# Altium schematic symbol library Microcontrollers.SchLib: 6 symbols
Pins are listed as number, name and electrical type; pins without a type are passive.

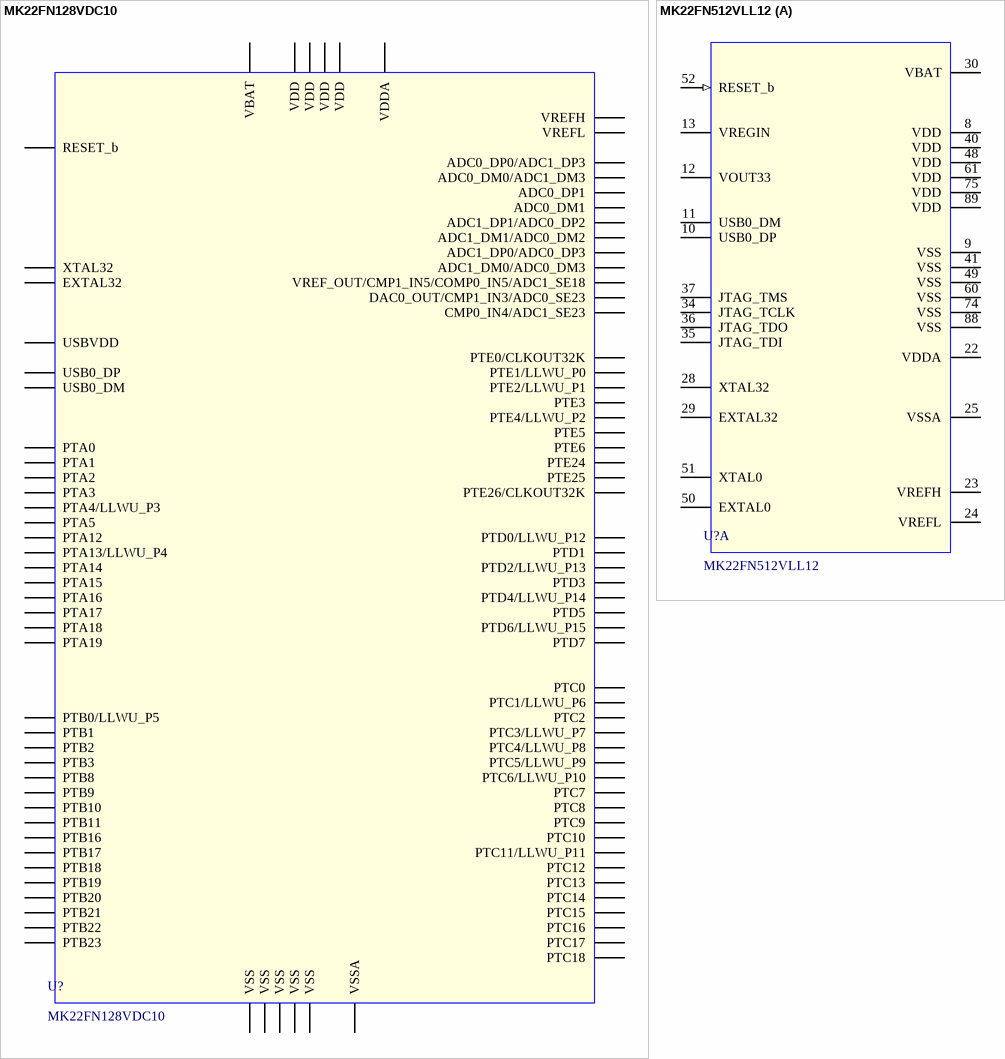
[diagram p0: symbols MK22FN128VDC10 to MK22FN512VLL12]

## MK22FN128VDC10
designator U?
32-bit ARM Cortex-M4 Microcontroller; MFG: FREESCALE; MFG_PN: MK22FN128VDC10
footprint BGA121_0.65mm
pins: A1 PTD7, A2 PTD5, A3 PTD4/LLWU_P14, A4 NC hidden, A5 PTC14, A6 PTC13, A7 PTC8, A8 PTC4/LLWU_P8, A9 NC hidden, A10 NC hidden, A11 NC hidden, B1 NC hidden, B2 PTD6/LLWU_P15, B3 PTD3, B4 PTC18, B5 PTC15, B6 PTC12, B7 PTC7, B8 PTC3/LLWU_P7, B9 PTC0, B10 PTB16, B11 NC hidden, C1 NC hidden, C2 NC hidden, C3 PTD2/LLWU_P13, C4 PTC17, C5 PTC11/LLWU_P11, C6 PTC10, C7 PTC6/LLWU_P10, C8 PTC2, C9 PTB19, C10 PTB11, C11 NC hidden, D1 NC hidden, D2 NC hidden, D3 PTD1, D4 PTD0/LLWU_P12, D5 PTC16, D6 PTC9, D7 PTC5/LLWU_P9, D8 PTC1/LLWU_P6, D9 PTB18, D10 PTB10, D11 PTB8, E1 NC hidden, E2 PTE2/LLWU_P1, E3 PTE1/LLWU_P0, E4 PTE0/CLKOUT32K, E5 VDD, E6 VDD, E7 VDD, E8 PTB23, E9 PTB17, E10 PTB9, E11 NC hidden, F1 USB0_DP, F2 USB0_DM, F3 PTE6, F4 PTE3, F5 VDDA, F6 VSSA, F7 VSS, F8 PTB22, F9 PTB21, F10 PTB20, F11 NC hidden, G1 USBVDD, G2 NC hidden, G3 VSS, G4 PTE5, G5 VREFH, G6 VREFL, G7 VSS, G8 PTB3, G9 PTB2, G10 PTB1, G11 PTB0/LLWU_P5, H1 ADC0_DP1, H2 ADC0_DM1, H3 NC hidden, H4 NC hidden, H5 PTE24, H6 PTE26/CLKOUT32K, H7 PTE4/LLWU_P2, H8 PTA1, H9 PTA3, H10 PTA17, H11 NC hidden, J1 ADC1_DP1/ADC0_DP2, J2 ADC1_DM1/ADC0_DM2, J3 NC hidden, J4 NC hidden, J5 PTE25, J6 PTA0, J7 PTA2, J8 PTA4/LLWU_P3, J9 NC hidden, J10 PTA16, J11 RESET_b, K1 ADC0_DP0/ADC1_DP3, K2 ADC0_DM0/ADC1_DM3, K3 NC hidden, K4 CMP0_IN4/ADC1_SE23, K5 DAC0_OUT/CMP1_IN3/ADC0_SE23, K6 VBAT, K7 PTA5, K8 PTA12, K9 PTA14, K10 VSS, K11 PTA19, L1 ADC1_DP0/ADC0_DP3, L2 ADC1_DM0/ADC0_DM3, L3 VREF_OUT/CMP1_IN5/COMP0_IN5/ADC1_SE18, L4 XTAL32, L5 EXTAL32, L6 VSS, L7 NC hidden, L8 PTA13/LLWU_P4, L9 PTA15, L10 VDD, L11 PTA18

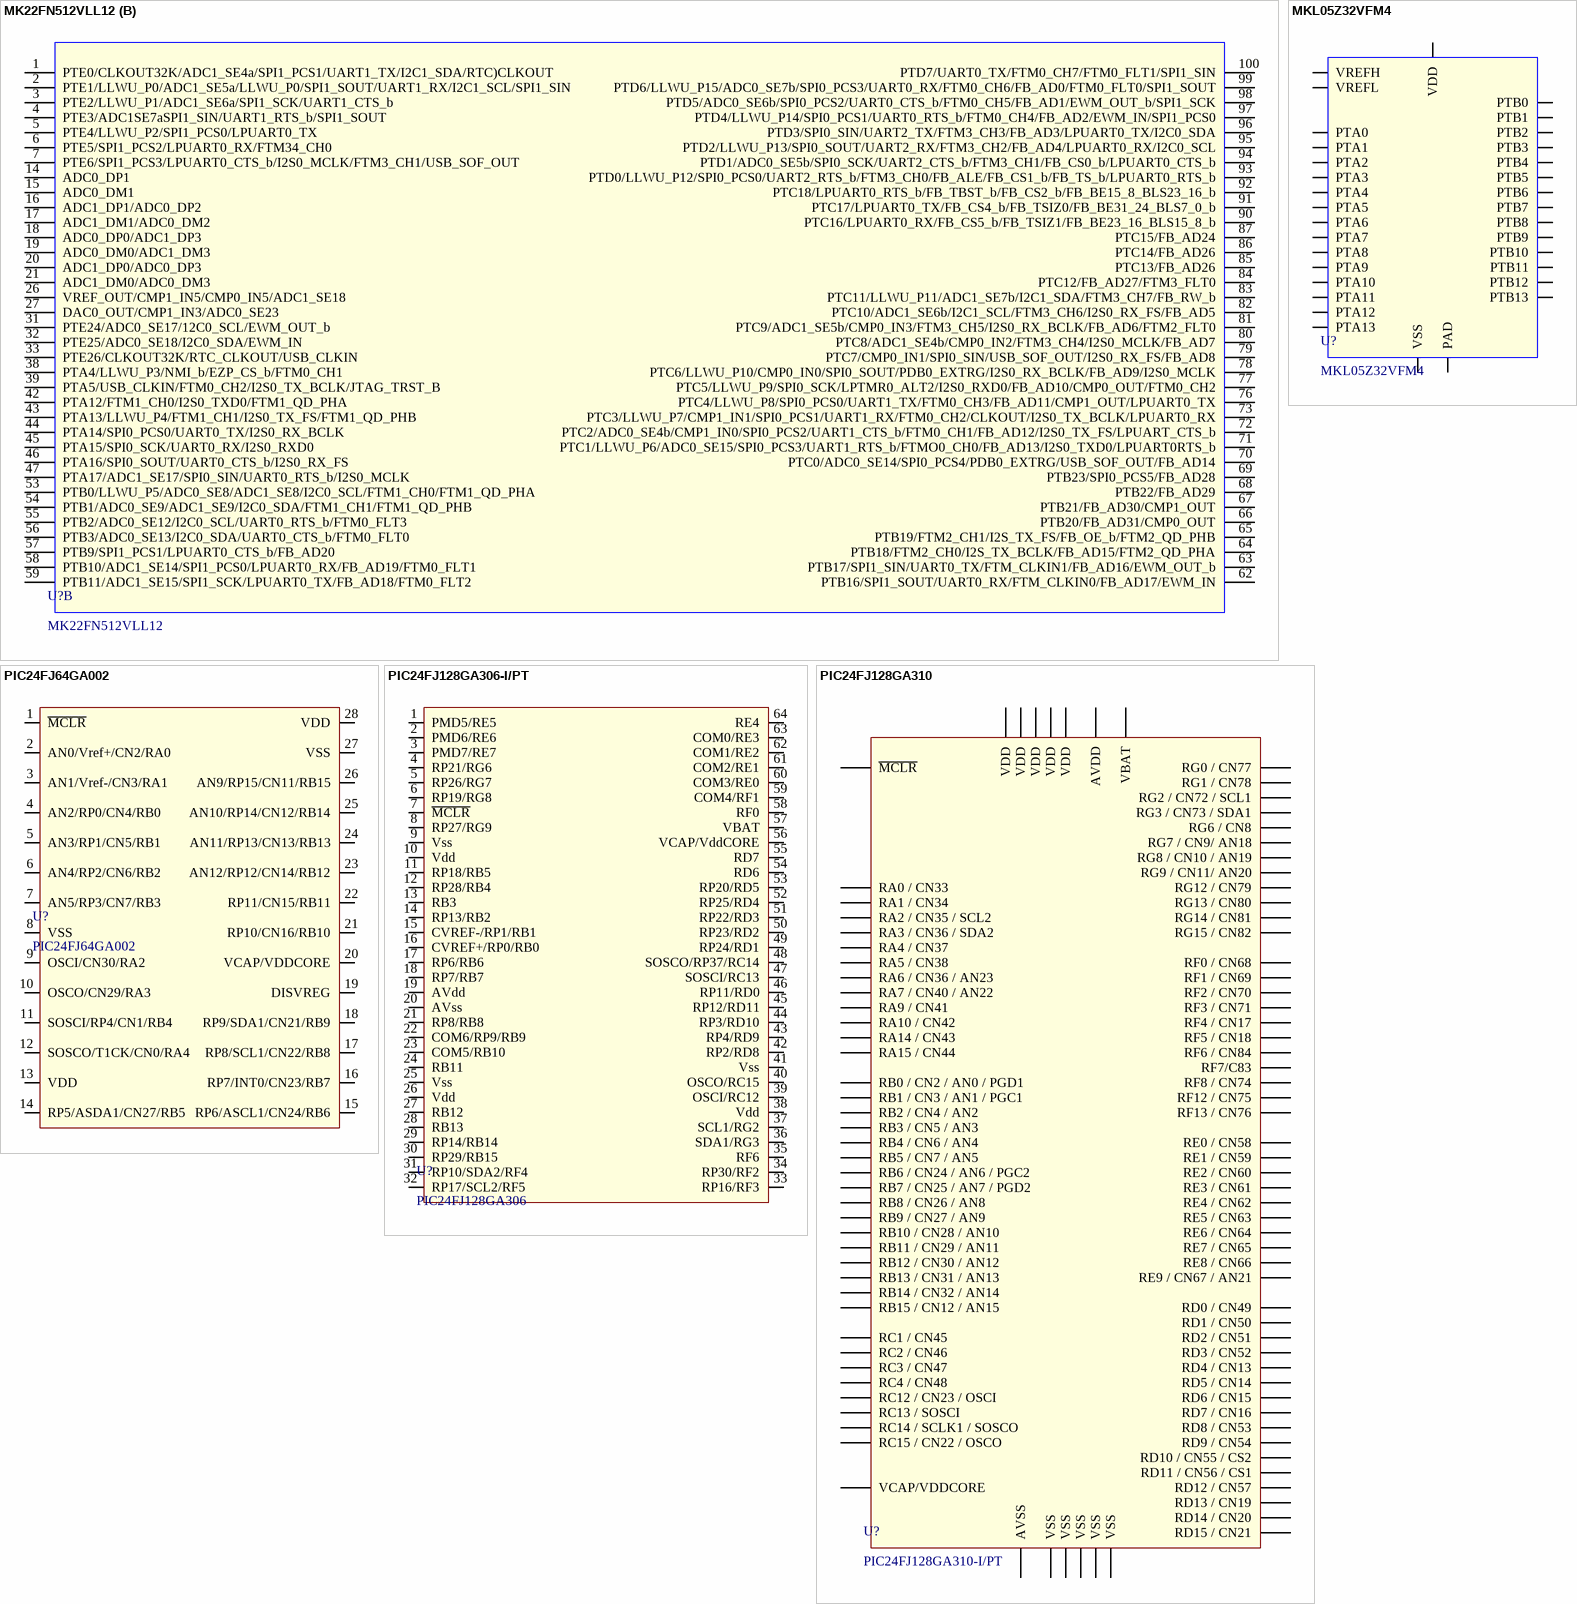
[diagram p1: symbols MK22FN512VLL12 to PIC24FJ128GA310]

## MK22FN512VLL12
designator U?
32-bit ARM Cortex-M4 Microcontroller; MFG: FREESCALE; MFG_PN: MK22FN512VLL12
footprint LQFP100 0.5mm 14mmx14mm
part A pins: 8 VDD (power), 9 VSS (power), 10 USB0_DP, 11 USB0_DM, 12 VOUT33 (power), 13 VREGIN (power), 22 VDDA (power), 23 VREFH (power), 24 VREFL (power), 25 VSSA (power), 28 XTAL32, 29 EXTAL32, 30 VBAT (power), 34 JTAG_TCLK, 35 JTAG_TDI, 36 JTAG_TDO, 37 JTAG_TMS, 40 VDD (power), 41 VSS (power), 48 VDD (power), 49 VSS (power), 50 EXTAL0, 51 XTAL0, 52 RESET_b (in), 60 VSS (power), 61 VDD (power), 74 VSS (power), 75 VDD (power), 88 VSS (power), 89 VDD (power)
part B pins: 1 PTE0/CLKOUT32K/ADC1_SE4a/SPI1_PCS1/UART1_TX/I2C1_SDA/RTC)CLKOUT, 2 PTE1/LLWU_P0/ADC1_SE5a/LLWU_P0/SPI1_SOUT/UART1_RX/I2C1_SCL/SPI1_SIN, 3 PTE2/LLWU_P1/ADC1_SE6a/SPI1_SCK/UART1_CTS_b, 4 PTE3/ADC1SE7aSPI1_SIN/UART1_RTS_b/SPI1_SOUT, 5 PTE4/LLWU_P2/SPI1_PCS0/LPUART0_TX, 6 PTE5/SPI1_PCS2/LPUART0_RX/FTM34_CH0, 7 PTE6/SPI1_PCS3/LPUART0_CTS_b/I2S0_MCLK/FTM3_CH1/USB_SOF_OUT, 14 ADC0_DP1, 15 ADC0_DM1, 16 ADC1_DP1/ADC0_DP2, 17 ADC1_DM1/ADC0_DM2, 18 ADC0_DP0/ADC1_DP3, 19 ADC0_DM0/ADC1_DM3, 20 ADC1_DP0/ADC0_DP3, 21 ADC1_DM0/ADC0_DM3, 26 VREF_OUT/CMP1_IN5/CMP0_IN5/ADC1_SE18, 27 DAC0_OUT/CMP1_IN3/ADC0_SE23, 31 PTE24/ADC0_SE17/12C0_SCL/EWM_OUT_b, 32 PTE25/ADC0_SE18/I2C0_SDA/EWM_IN, 33 PTE26/CLKOUT32K/RTC_CLKOUT/USB_CLKIN, 38 PTA4/LLWU_P3/NMI_b/EZP_CS_b/FTM0_CH1, 39 PTA5/USB_CLKIN/FTM0_CH2/I2S0_TX_BCLK/JTAG_TRST_B, 42 PTA12/FTM1_CH0/I2S0_TXD0/FTM1_QD_PHA, 43 PTA13/LLWU_P4/FTM1_CH1/I2S0_TX_FS/FTM1_QD_PHB, 44 PTA14/SPI0_PCS0/UART0_TX/I2S0_RX_BCLK, 45 PTA15/SPI0_SCK/UART0_RX/I2S0_RXD0, 46 PTA16/SPI0_SOUT/UART0_CTS_b/I2S0_RX_FS, 47 PTA17/ADC1_SE17/SPI0_SIN/UART0_RTS_b/I2S0_MCLK, 53 PTB0/LLWU_P5/ADC0_SE8/ADC1_SE8/I2C0_SCL/FTM1_CH0/FTM1_QD_PHA, 54 PTB1/ADC0_SE9/ADC1_SE9/I2C0_SDA/FTM1_CH1/FTM1_QD_PHB, 55 PTB2/ADC0_SE12/I2C0_SCL/UART0_RTS_b/FTM0_FLT3, 56 PTB3/ADC0_SE13/I2C0_SDA/UART0_CTS_b/FTM0_FLT0, 57 PTB9/SPI1_PCS1/LPUART0_CTS_b/FB_AD20, 58 PTB10/ADC1_SE14/SPI1_PCS0/LPUART0_RX/FB_AD19/FTM0_FLT1, 59 PTB11/ADC1_SE15/SPI1_SCK/LPUART0_TX/FB_AD18/FTM0_FLT2, 62 PTB16/SPI1_SOUT/UART0_RX/FTM_CLKIN0/FB_AD17/EWM_IN, 63 PTB17/SPI1_SIN/UART0_TX/FTM_CLKIN1/FB_AD16/EWM_OUT_b, 64 PTB18/FTM2_CH0/I2S_TX_BCLK/FB_AD15/FTM2_QD_PHA, 65 PTB19/FTM2_CH1/I2S_TX_FS/FB_OE_b/FTM2_QD_PHB, 66 PTB20/FB_AD31/CMP0_OUT, 67 PTB21/FB_AD30/CMP1_OUT, 68 PTB22/FB_AD29, 69 PTB23/SPI0_PCS5/FB_AD28, 70 PTC0/ADC0_SE14/SPI0_PCS4/PDB0_EXTRG/USB_SOF_OUT/FB_AD14, 71 PTC1/LLWU_P6/ADC0_SE15/SPI0_PCS3/UART1_RTS_b/FTMO0_CH0/FB_AD13/I2S0_TXD0/LPUART0RTS_b, 72 PTC2/ADC0_SE4b/CMP1_IN0/SPI0_PCS2/UART1_CTS_b/FTM0_CH1/FB_AD12/I2S0_TX_FS/LPUART_CTS_b, 73 PTC3/LLWU_P7/CMP1_IN1/SPI0_PCS1/UART1_RX/FTM0_CH2/CLKOUT/I2S0_TX_BCLK/LPUART0_RX, 76 PTC4/LLWU_P8/SPI0_PCS0/UART1_TX/FTM0_CH3/FB_AD11/CMP1_OUT/LPUART0_TX, 77 PTC5/LLWU_P9/SPI0_SCK/LPTMR0_ALT2/I2S0_RXD0/FB_AD10/CMP0_OUT/FTM0_CH2, 78 PTC6/LLWU_P10/CMP0_IN0/SPI0_SOUT/PDB0_EXTRG/I2S0_RX_BCLK/FB_AD9/I2S0_MCLK, 79 PTC7/CMP0_IN1/SPI0_SIN/USB_SOF_OUT/I2S0_RX_FS/FB_AD8, 80 PTC8/ADC1_SE4b/CMP0_IN2/FTM3_CH4/I2S0_MCLK/FB_AD7, 81 PTC9/ADC1_SE5b/CMP0_IN3/FTM3_CH5/I2S0_RX_BCLK/FB_AD6/FTM2_FLT0, 82 PTC10/ADC1_SE6b/I2C1_SCL/FTM3_CH6/I2S0_RX_FS/FB_AD5, 83 PTC11/LLWU_P11/ADC1_SE7b/I2C1_SDA/FTM3_CH7/FB_RW_b, 84 PTC12/FB_AD27/FTM3_FLT0, 85 PTC13/FB_AD26, 86 PTC14/FB_AD26, 87 PTC15/FB_AD24, 90 PTC16/LPUART0_RX/FB_CS5_b/FB_TSIZ1/FB_BE23_16_BLS15_8_b, 91 PTC17/LPUART0_TX/FB_CS4_b/FB_TSIZ0/FB_BE31_24_BLS7_0_b, 92 PTC18/LPUART0_RTS_b/FB_TBST_b/FB_CS2_b/FB_BE15_8_BLS23_16_b, 93 PTD0/LLWU_P12/SPI0_PCS0/UART2_RTS_b/FTM3_CH0/FB_ALE/FB_CS1_b/FB_TS_b/LPUART0_RTS_b, 94 PTD1/ADC0_SE5b/SPI0_SCK/UART2_CTS_b/FTM3_CH1/FB_CS0_b/LPUART0_CTS_b, 95 PTD2/LLWU_P13/SPI0_SOUT/UART2_RX/FTM3_CH2/FB_AD4/LPUART0_RX/I2C0_SCL, 96 PTD3/SPI0_SIN/UART2_TX/FTM3_CH3/FB_AD3/LPUART0_TX/I2C0_SDA, 97 PTD4/LLWU_P14/SPI0_PCS1/UART0_RTS_b/FTM0_CH4/FB_AD2/EWM_IN/SPI1_PCS0, 98 PTD5/ADC0_SE6b/SPI0_PCS2/UART0_CTS_b/FTM0_CH5/FB_AD1/EWM_OUT_b/SPI1_SCK, 99 PTD6/LLWU_P15/ADC0_SE7b/SPI0_PCS3/UART0_RX/FTM0_CH6/FB_AD0/FTM0_FLT0/SPI1_SOUT, 100 PTD7/UART0_TX/FTM0_CH7/FTM0_FLT1/SPI1_SIN

## MKL05Z32VFM4
designator U?
32-bit ARM Cortex-M0+; MFG: FREESCALE; CLOCK_MAX: 48MHz; MFG_PN: MKL05Z32VFM4
footprint QFN-32 5x5mm (0.5mm pitch)
pins: 0 PAD, 1 PTB6, 2 PTB7, 3 VDD, 4 VREFH, 5 VREFL, 6 VSS, 7 PTA3, 8 PTA4, 9 PTA5, 10 PTA6, 11 PTB8, 12 PTB9, 13 PTB10, 14 PTB11, 15 PTA7, 16 PTB0, 17 PTB1, 18 PTB2, 19 PTA8, 20 PTA9, 21 PTA10, 22 PTA11, 23 PTB3, 24 PTB4, 25 PTB5, 26 PTA12, 27 PTA13, 28 PTB12, 29 PTB13, 30 PTA0, 31 PTA1, 32 PTA2

## PIC24FJ64GA002
designator U?
MFG: Microchip; MFG_PN: PIC24FJ64GA002-I/SS
footprint SSOP-28
pins: 1 ~{MCLR}, 2 AN0/Vref+/CN2/RA0, 3 AN1/Vref-/CN3/RA1, 4 AN2/RP0/CN4/RB0, 5 AN3/RP1/CN5/RB1, 6 AN4/RP2/CN6/RB2, 7 AN5/RP3/CN7/RB3, 8 VSS, 9 OSCI/CN30/RA2, 10 OSCO/CN29/RA3, 11 SOSCI/RP4/CN1/RB4, 12 SOSCO/T1CK/CN0/RA4, 13 VDD, 14 RP5/ASDA1/CN27/RB5, 15 RP6/ASCL1/CN24/RB6, 16 RP7/INT0/CN23/RB7, 17 RP8/SCL1/CN22/RB8, 18 RP9/SDA1/CN21/RB9, 19 DISVREG, 20 VCAP/VDDCORE, 21 RP10/CN16/RB10, 22 RP11/CN15/RB11, 23 AN12/RP12/CN14/RB12, 24 AN11/RP13/CN13/RB13, 25 AN10/RP14/CN12/RB14, 26 AN9/RP15/CN11/RB15, 27 VSS, 28 VDD

## PIC24FJ128GA306-I/PT
designator U?, comment PIC24FJ128GA306
MFG: Microchip; MFG_PN: PIC24FJ128GA306-I/PT
footprint TQFP-64 (0.5mm) (0.5mm Pitch)
pins: 1 PMD5/RE5, 2 PMD6/RE6, 3 PMD7/RE7, 4 RP21/RG6, 5 RP26/RG7, 6 RP19/RG8, 7 ~{MCLR}, 8 RP27/RG9, 9 Vss, 10 Vdd, 11 RP18/RB5, 12 RP28/RB4, 13 RB3, 14 RP13/RB2, 15 CVREF-/RP1/RB1, 16 CVREF+/RP0/RB0, 17 RP6/RB6, 18 RP7/RB7, 19 AVdd, 20 AVss, 21 RP8/RB8, 22 COM6/RP9/RB9, 23 COM5/RB10, 24 RB11, 25 Vss, 26 Vdd, 27 RB12, 28 RB13, 29 RP14/RB14, 30 RP29/RB15, 31 RP10/SDA2/RF4, 32 RP17/SCL2/RF5, 33 RP16/RF3, 34 RP30/RF2, 35 RF6, 36 SDA1/RG3, 37 SCL1/RG2, 38 Vdd, 39 OSCI/RC12, 40 OSCO/RC15, 41 Vss, 42 RP2/RD8, 43 RP4/RD9, 44 RP3/RD10, 45 RP12/RD11, 46 RP11/RD0, 47 SOSCI/RC13, 48 SOSCO/RP37/RC14, 49 RP24/RD1, 50 RP23/RD2, 51 RP22/RD3, 52 RP25/RD4, 53 RP20/RD5, 54 RD6, 55 RD7, 56 VCAP/VddCORE, 57 VBAT, 58 RF0, 59 COM4/RF1, 60 COM3/RE0, 61 COM2/RE1, 62 COM1/RE2, 63 COM0/RE3, 64 RE4

## PIC24FJ128GA310
designator U?, comment PIC24FJ128GA310-I/PT
MFG: Microchip; MFG_PN: PIC24FJ128GA310-I/PT
footprint TQFP100 0.4mm Pitch (TQFP100 0.4mm pitch)
pins: 1 RG15 / CN82, 2 VDD, 3 RE5 / CN63, 4 RE6 / CN64, 5 RE7 / CN65, 6 RC1 / CN45, 7 RC2 / CN46, 8 RC3 / CN47, 9 RC4 / CN48, 10 RG6 / CN8, 11 RG7 / CN9/ AN18, 12 RG8 / CN10 / AN19, 13 ~{MCLR}, 14 RG9 / CN11/ AN20, 15 VSS, 16 VDD, 17 RA0 / CN33, 18 RE8 / CN66, 19 RE9 / CN67 / AN21, 20 RB5 / CN7 / AN5, 21 RB4 / CN6 / AN4, 22 RB3 / CN5 / AN3, 23 RB2 / CN4 / AN2, 24 RB1 / CN3 / AN1 / PGC1, 25 RB0 / CN2 / AN0 / PGD1, 26 RB6 / CN24 / AN6 / PGC2, 27 RB7 / CN25 / AN7 / PGD2, 28 RA9 / CN41, 29 RA10 / CN42, 30 AVDD, 31 AVSS, 32 RB8 / CN26 / AN8, 33 RB9 / CN27 / AN9, 34 RB10 / CN28 / AN10, 35 RB11 / CN29 / AN11, 36 VSS, 37 VDD, 38 RA1 / CN34, 39 RF13 / CN76, 40 RF12 / CN75, 41 RB12 / CN30 / AN12, 42 RB13 / CN31 / AN13, 43 RB14 / CN32 / AN14, 44 RB15 / CN12 / AN15, 45 VSS, 46 VDD, 47 RD14 / CN20, 48 RD15 / CN21, 49 RF4 / CN17, 50 RF5 / CN18, 51 RF3 / CN71, 52 RF2 / CN70, 53 RF8 / CN74, 54 RF7/C83, 55 RF6 / CN84, 56 RG3 / CN73 / SDA1, 57 RG2 / CN72 / SCL1, 58 RA2 / CN35 / SCL2, 59 RA3 / CN36 / SDA2, 60 RA4 / CN37, 61 RA5 / CN38, 62 VDD, 63 RC12 / CN23 / OSCI, 64 RC15 / CN22 / OSCO, 65 VSS, 66 RA14 / CN43, 67 RA15 / CN44, 68 RD8 / CN53, 69 RD9 / CN54, 70 RD10 / CN55 / CS2, 71 RD11 / CN56 / CS1, 72 RD0 / CN49, 73 RC13 / SOSCI, 74 RC14 / SCLK1 / SOSCO, 75 VSS, 76 RD1 / CN50, 77 RD2 / CN51, 78 RD3 / CN52, 79 RD12 / CN57, 80 RD13 / CN19, 81 RD4 / CN13, 82 RD5 / CN14, 83 RD6 / CN15, 84 RD7 / CN16, 85 VCAP/VDDCORE, 86 VBAT, 87 RF0 / CN68, 88 RF1 / CN69, 89 RG1 / CN78, 90 RG0 / CN77, 91 RA6 / CN36 / AN23, 92 RA7 / CN40 / AN22, 93 RE0 / CN58, 94 RE1 / CN59, 95 RG14 / CN81, 96 RG12 / CN79, 97 RG13 / CN80, 98 RE2 / CN60, 99 RE3 / CN61, 100 RE4 / CN62